# Altium schematic symbol library Pad 4x1.Schlib: 1 symbol
Pins are listed as number, name and electrical type; pins without a type are passive.

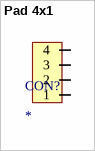
[diagram p0: symbol Pad 4x1]

## Pad 4x1
designator CON?
pads for In circuit programming using test pins
footprint Pad 4x1 (programming pads)
pins: 1, 2, 3, 4